# EAGLE library part ADC,ADC12CXXX(12-BIT,PAR) (library QuantumOptics)
ADC12C170/250, T.I. 12-bit ADC, CMOS parallel, 170MSPS or 250MSPS, 1.3GHz analog bandwidth.
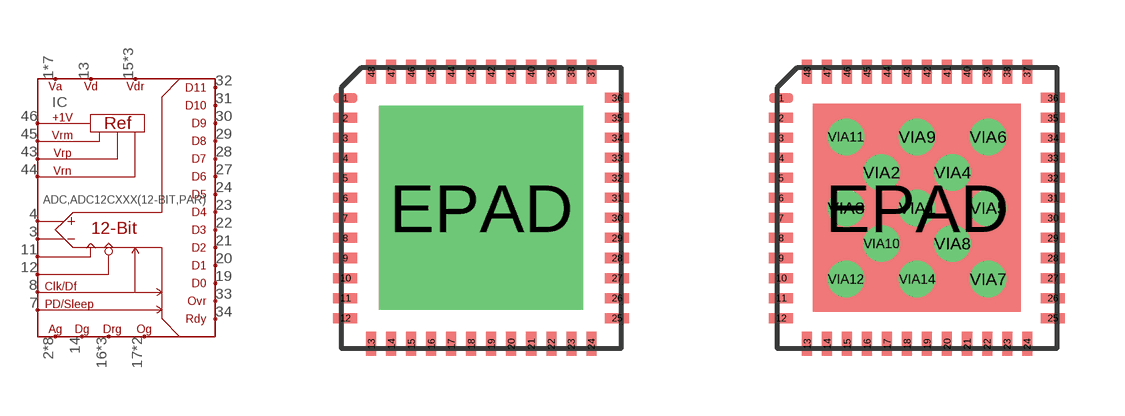
[diagram p156: symbol with the pads of SQA48A(TI:48LLP); footprints SQA48A(TI:48LLP), SQA48A_W_VIAS(TI:48LLP)]

Designator prefix IC

## ADC,ADC12CXXX(12-BIT,PAR)-ONE_BIG_VIA  [SQA48A(TI:48LLP)]
1  VA
2  AGND
3  IN-  in
4  IN+  in
5  AGND
6  VA
7  PD/SLEEP  in
8  CLK-DF  in
9  VA
10  AGND
11  CLK+  in
12  CLK-  in
13  VD
14  DGND
15  VDR
16  DRGND
17  OGND
18  OGND
19  D0  out
20  D1  out
21  D2  out
22  D3  out
23  D4  out
24  D5  out
25  VDR
26  DRGND
27  D6  out
28  D7  out
29  D8  out
30  D9  out
31  D10  out
32  D11  out
33  OVR  out
34  DRDY  out
35  DRGND
36  VDR
37  VA
38  AGND
39  AGND
40  VA
41  VA
42  AGND
43  VRP  out
44  VRN  out
45  VRM  out
46  VREF
47  AGND
48  VA
EPAD  AGND

## ADC,ADC12CXXX(12-BIT,PAR)SQA48A_W_VIAS  [SQA48A_W_VIAS(TI:48LLP)]
1  VA
2  AGND
3  IN-  in
4  IN+  in
5  AGND
6  VA
7  PD/SLEEP  in
8  CLK-DF  in
9  VA
10  AGND
11  CLK+  in
12  CLK-  in
13  VD
14  DGND
15  VDR
16  DRGND
17  OGND
18  OGND
19  D0  out
20  D1  out
21  D2  out
22  D3  out
23  D4  out
24  D5  out
25  VDR
26  DRGND
27  D6  out
28  D7  out
29  D8  out
30  D9  out
31  D10  out
32  D11  out
33  OVR  out
34  DRDY  out
35  DRGND
36  VDR
37  VA
38  AGND
39  AGND
40  VA
41  VA
42  AGND
43  VRP  out
44  VRN  out
45  VRM  out
46  VREF
47  AGND
48  VA
EPAD  AGND
VIA1  AGND
VIA2  AGND
VIA3  AGND
VIA4  AGND
VIA5  AGND
VIA6  AGND
VIA7  AGND
VIA8  AGND
VIA9  AGND
VIA10  AGND
VIA11  AGND
VIA12  AGND
VIA14  AGND

## Footprint SQA48A(TI:48LLP) (pad centres in mm)
SQA48A, 48-LLP package, T.I.
smd 0.6 x 0.25: 1 -3.4,2.75; 2 -3.4,2.25; 3 -3.4,1.75; 4 -3.4,1.25; 5 -3.4,0.75; 6 -3.4,0.25; 7 -3.4,-0.25; 8 -3.4,-0.75; 9 -3.4,-1.25; 10 -3.4,-1.75; 11 -3.4,-2.25; 12 -3.4,-2.75; 25 3.4,-2.75; 26 3.4,-2.25; 27 3.4,-1.75; 28 3.4,-1.25; 29 3.4,-0.75; 30 3.4,-0.25; 31 3.4,0.25; 32 3.4,0.75; 33 3.4,1.25; 34 3.4,1.75; 35 3.4,2.25; 36 3.4,2.75
smd 0.25 x 0.6: 13 -2.75,-3.4; 14 -2.25,-3.4; 15 -1.75,-3.4; 16 -1.25,-3.4; 17 -0.75,-3.4; 18 -0.25,-3.4; 19 0.25,-3.4; 20 0.75,-3.4; 21 1.25,-3.4; 22 1.75,-3.4; 23 2.25,-3.4; 24 2.75,-3.4; 37 2.75,3.4; 38 2.25,3.4; 39 1.75,3.4; 40 1.25,3.4; 41 0.75,3.4; 42 0.25,3.4; 43 -0.25,3.4; 44 -0.75,3.4; 45 -1.25,3.4; 46 -1.75,3.4; 47 -2.25,3.4; 48 -2.75,3.4
drill 3.175 pad 5.1 square: EPAD 0,0

## Footprint SQA48A_W_VIAS(TI:48LLP) (pad centres in mm)
SQA48A, 48-LLP package with thermal vias, T.I.
smd 0.6 x 0.25: 1 -3.4,2.75; 2 -3.4,2.25; 3 -3.4,1.75; 4 -3.4,1.25; 5 -3.4,0.75; 6 -3.4,0.25; 7 -3.4,-0.25; 8 -3.4,-0.75; 9 -3.4,-1.25; 10 -3.4,-1.75; 11 -3.4,-2.25; 12 -3.4,-2.75; 25 3.4,-2.75; 26 3.4,-2.25; 27 3.4,-1.75; 28 3.4,-1.25; 29 3.4,-0.75; 30 3.4,-0.25; 31 3.4,0.25; 32 3.4,0.75; 33 3.4,1.25; 34 3.4,1.75; 35 3.4,2.25; 36 3.4,2.75
smd 0.25 x 0.6: 13 -2.75,-3.4; 14 -2.25,-3.4; 15 -1.75,-3.4; 16 -1.25,-3.4; 17 -0.75,-3.4; 18 -0.25,-3.4; 19 0.25,-3.4; 20 0.75,-3.4; 21 1.25,-3.4; 22 1.75,-3.4; 23 2.25,-3.4; 24 2.75,-3.4; 37 2.75,3.4; 38 2.25,3.4; 39 1.75,3.4; 40 1.25,3.4; 41 0.75,3.4; 42 0.25,3.4; 43 -0.25,3.4; 44 -0.75,3.4; 45 -1.25,3.4; 46 -1.75,3.4; 47 -2.25,3.4; 48 -2.75,3.4
smd 5.2 x 5.2: EPAD 0,0
drill 0.406 pad 0.711: VIA1 0,0; VIA2 -0.889,0.889; VIA3 -1.778,0; VIA4 0.889,0.889; VIA5 1.778,0; VIA6 1.778,1.778; VIA7 1.778,-1.778; VIA8 0.889,-0.889; VIA9 0,1.778; VIA10 -0.889,-0.889; VIA11 -1.778,1.778; VIA12 -1.778,-1.778; VIA14 0,-1.778